# Altium footprint library ANTENNA_1575AT43A40.PcbLib: 1 footprints
Each footprint in its own frame and in the unit in brackets; x right, y up, seen from the top. Pads: shape width x height; smd on the part's side, far side on the other; paste and mask are expansions set on the pad; w line width, h text height; cw(c..) or ccw(c..) is an arc to the next point about the centre after c.
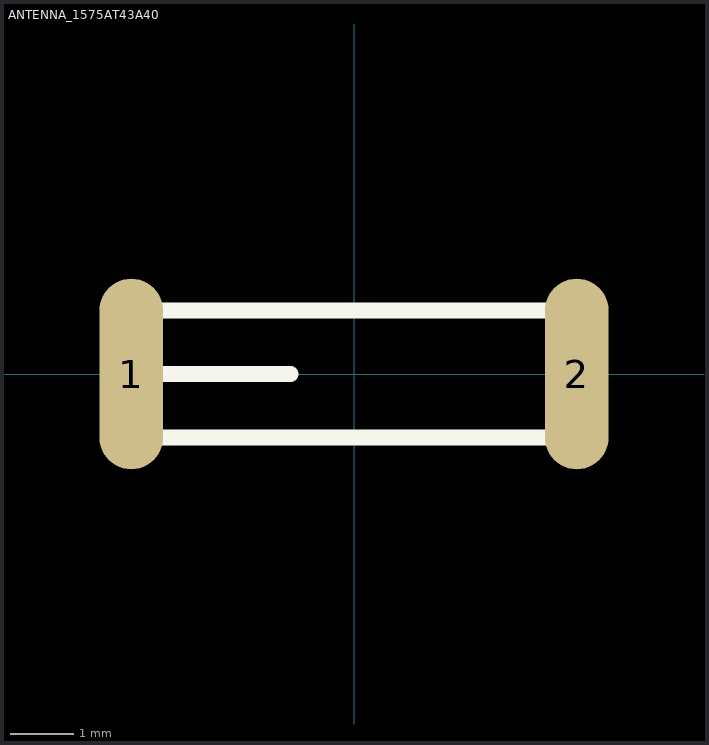
[diagram p0: the footprint, top view; thin cyan lines are the x and y axes]

## ANTENNA_1575AT43A40 [mm]
pads (2):
  oval 1x3 smd: 1(-3.5,0) 2(3.5,0)
Top Overlay:
  lines w0.254: -3,0 -2,0 -1,0 ; -3.5,-1 3.5,-1 3.5,1 -3.5,1 -3.5,-1
3D body: height 0.8, standoff -0.4, extent -3.5,-1.1 3.6,1.1